# EAGLE library part FDMA1024NZ (library fairchild)
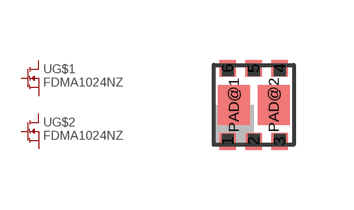
[diagram p0: symbol with the pads of MICROFET.2X2; footprint MICROFET.2X2]

Designator prefix -; gates G$1=MOSFET.N G$2=MOSFET.N

## FDMA1024NZ  [MICROFET.2X2]
1  G$1:S
2  G$1:G
3  G$2:D
4  G$2:S
5  G$2:G
6  G$1:D
PAD@1  G$1:D
PAD@2  G$2:D

## Footprint MICROFET.2X2 (pad centres in mm)
smd 0.42 x 0.42: 1 -0.65,-0.915; 2 0,-0.915; 3 0.65,-0.915; 4 0.65,0.915; 5 0,0.915; 6 -0.65,0.915
smd 0.8 x 1: PAD@1 -0.5,0; PAD@2 0.5,0